# EAGLE library part 6250XX21621_62501021621 (library Wurth_Connectors_WR-BHD)
WR-BHD 2.00 mm Male Box Header KIND PROPERTIES: Pitch 2 mm Gender:Male MATERIAL PROPERTIES: Insulator Material:PBT Insulator Flammability Rating UL94 V-0 Insulator Color:Black Contact Material :Copper Alloy Contact Plating :Gold Contact Type: Stamped GENERAL INFORMATION: Operating Temperature:-40 °C up to +125 °C Compliance:RoHS Working Voltage: 250 V (AC) Withstanding Voltage:500 V (AC) Contact Resistance: 20 mΩ Insulation Resistance:1000 MΩ CERTIFICATION UL Approval:E323964 PACKAGING PROPERTIES Packaging :Tray <https://www.we-online.de/catalog/media/o32924v209%20Family_WR-BHD_6250xx21621.jpg> Details see: https://www.we-online.de/katalog/en/em/BHD_2_00_MALE_BOX_HEADER_6250XX21621 Updated by Ella Wu 2021-03-12 2021 (C) Würth Elektronik
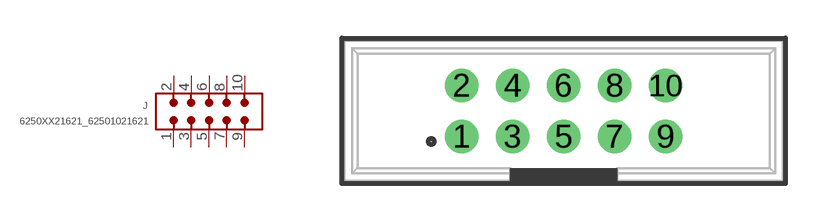
[diagram p159: symbol with the pads of 62501021621; footprint 62501021621]

Designator prefix J

## 6250XX21621_62501021621 (CONTACT-RESISTANCE: 20mOhm; DATASHEET-URL: https://www.we-online.com/redexpert/spec/62501021621?ae; GENDER: Male; IR: 2A; LENGTH: 17.2mm; MOUNT: THT; PACKAGING: Tray; PART-NUMBER: 62501021621; PINS: 10; PITCH: 2mm; TYPE: Straight; VALUE: 62501021621; WORKING-VOLTAGE: 250V(AC))  [62501021621]
1  1  pas
2  2  pas
3  3  pas
4  4  pas
5  5  pas
6  6  pas
7  7  pas
8  8  pas
9  9  pas
10  10  pas

## Footprint 62501021621 (pad centres in mm)
WR-BHD 2.00 mm Male Box Headerr, 10 pins
drill 0.8: 1 -4,-1; 2 -4,1; 3 -2,-1; 4 -2,1; 5 0,-1; 6 0,1; 7 2,-1; 8 2,1; 9 4,-1; 10 4,1